# EAGLE library part STM32F103C8T6 (library STM32F103C8T6 - STM)
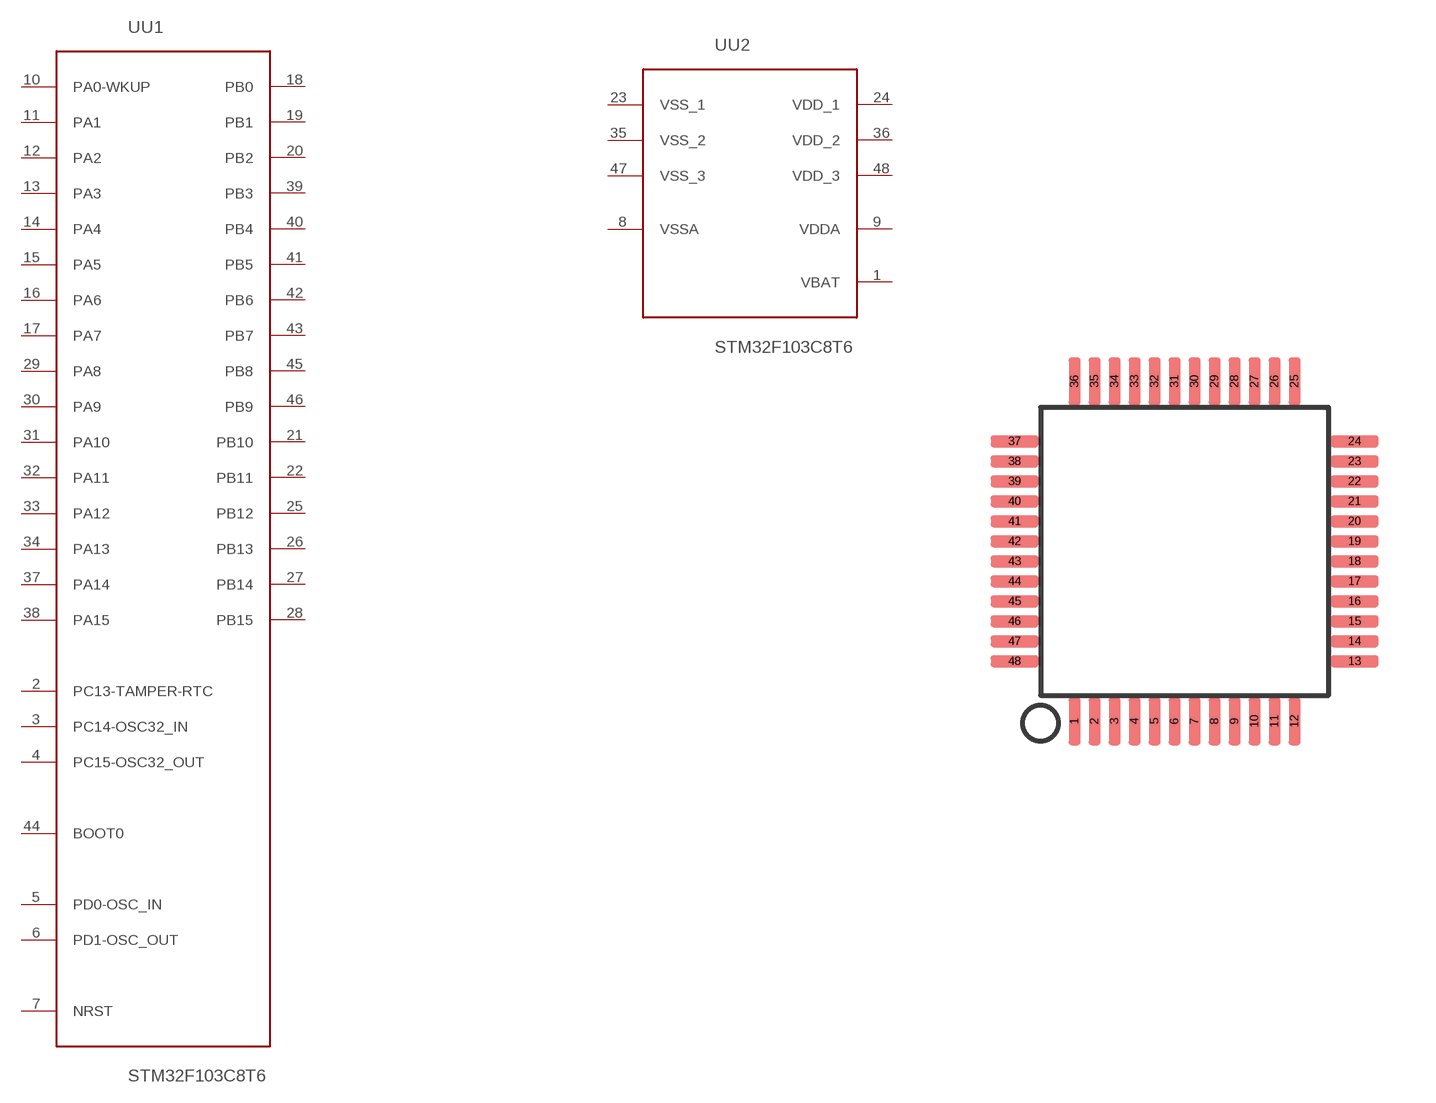
[diagram p0: symbol with the pads of 48-LQFP; footprint 48-LQFP]

Designator prefix -; gates U1=MCU U2=MCU_SUPPLY

## STM32F103C8T6  [48-LQFP]
1  U2:VBAT  pwr
2  U1:PC13-TAMPER-RTC
3  U1:PC14-OSC32_IN
4  U1:PC15-OSC32_OUT
5  U1:PD0-OSC_IN  in
6  U1:PD1-OSC_OUT  out
7  U1:NRST
8  U2:VSSA  pwr
9  U2:VDDA  pwr
10  U1:PA0-WKUP
11  U1:PA1
12  U1:PA2
13  U1:PA3
14  U1:PA4
15  U1:PA5
16  U1:PA6
17  U1:PA7
18  U1:PB0
19  U1:PB1
20  U1:PB2
21  U1:PB10
22  U1:PB11
23  U2:VSS_1  pwr
24  U2:VDD_1  pwr
25  U1:PB12
26  U1:PB13
27  U1:PB14
28  U1:PB15
29  U1:PA8
30  U1:PA9
31  U1:PA10
32  U1:PA11
33  U1:PA12
34  U1:PA13
35  U2:VSS_2  pwr
36  U2:VDD_2  pwr
37  U1:PA14
38  U1:PA15
39  U1:PB3
40  U1:PB4
41  U1:PB5
42  U1:PB6
43  U1:PB7
44  U1:BOOT0  in
45  U1:PB8
46  U1:PB9
47  U2:VSS_3  pwr
48  U2:VDD_3  pwr

## Footprint 48-LQFP (pad centres in mm)
smd 0.3 x 1.2: 1 -2.75,-4.25; 2 -2.25,-4.25; 3 -1.75,-4.25; 4 -1.25,-4.25; 5 -0.75,-4.25; 6 -0.25,-4.25; 7 0.25,-4.25; 8 0.75,-4.25; 9 1.25,-4.25; 10 1.75,-4.25; 11 2.25,-4.25; 12 2.75,-4.25; 25 2.75,4.25; 26 2.25,4.25; 27 1.75,4.25; 28 1.25,4.25; 29 0.75,4.25; 30 0.25,4.25; 31 -0.25,4.25; 32 -0.75,4.25; 33 -1.25,4.25; 34 -1.75,4.25; 35 -2.25,4.25; 36 -2.75,4.25
smd 1.2 x 0.3: 13 4.25,-2.75; 14 4.25,-2.25; 15 4.25,-1.75; 16 4.25,-1.25; 17 4.25,-0.75; 18 4.25,-0.25; 19 4.25,0.25; 20 4.25,0.75; 21 4.25,1.25; 22 4.25,1.75; 23 4.25,2.25; 24 4.25,2.75; 37 -4.25,2.75; 38 -4.25,2.25; 39 -4.25,1.75; 40 -4.25,1.25; 41 -4.25,0.75; 42 -4.25,0.25; 43 -4.25,-0.25; 44 -4.25,-0.75; 45 -4.25,-1.25; 46 -4.25,-1.75; 47 -4.25,-2.25; 48 -4.25,-2.75